# Altium footprint library FootPrintLib_6.PcbLib: 588 footprints (part 10 of 37)
Each footprint in its own frame and in the unit in brackets; x right, y up, seen from the top. Pads: shape width x height; smd on the part's side, far side on the other; paste and mask are expansions set on the pad; w line width, h text height; cw(c..) or ccw(c..) is an arc to the next point about the centre after c.
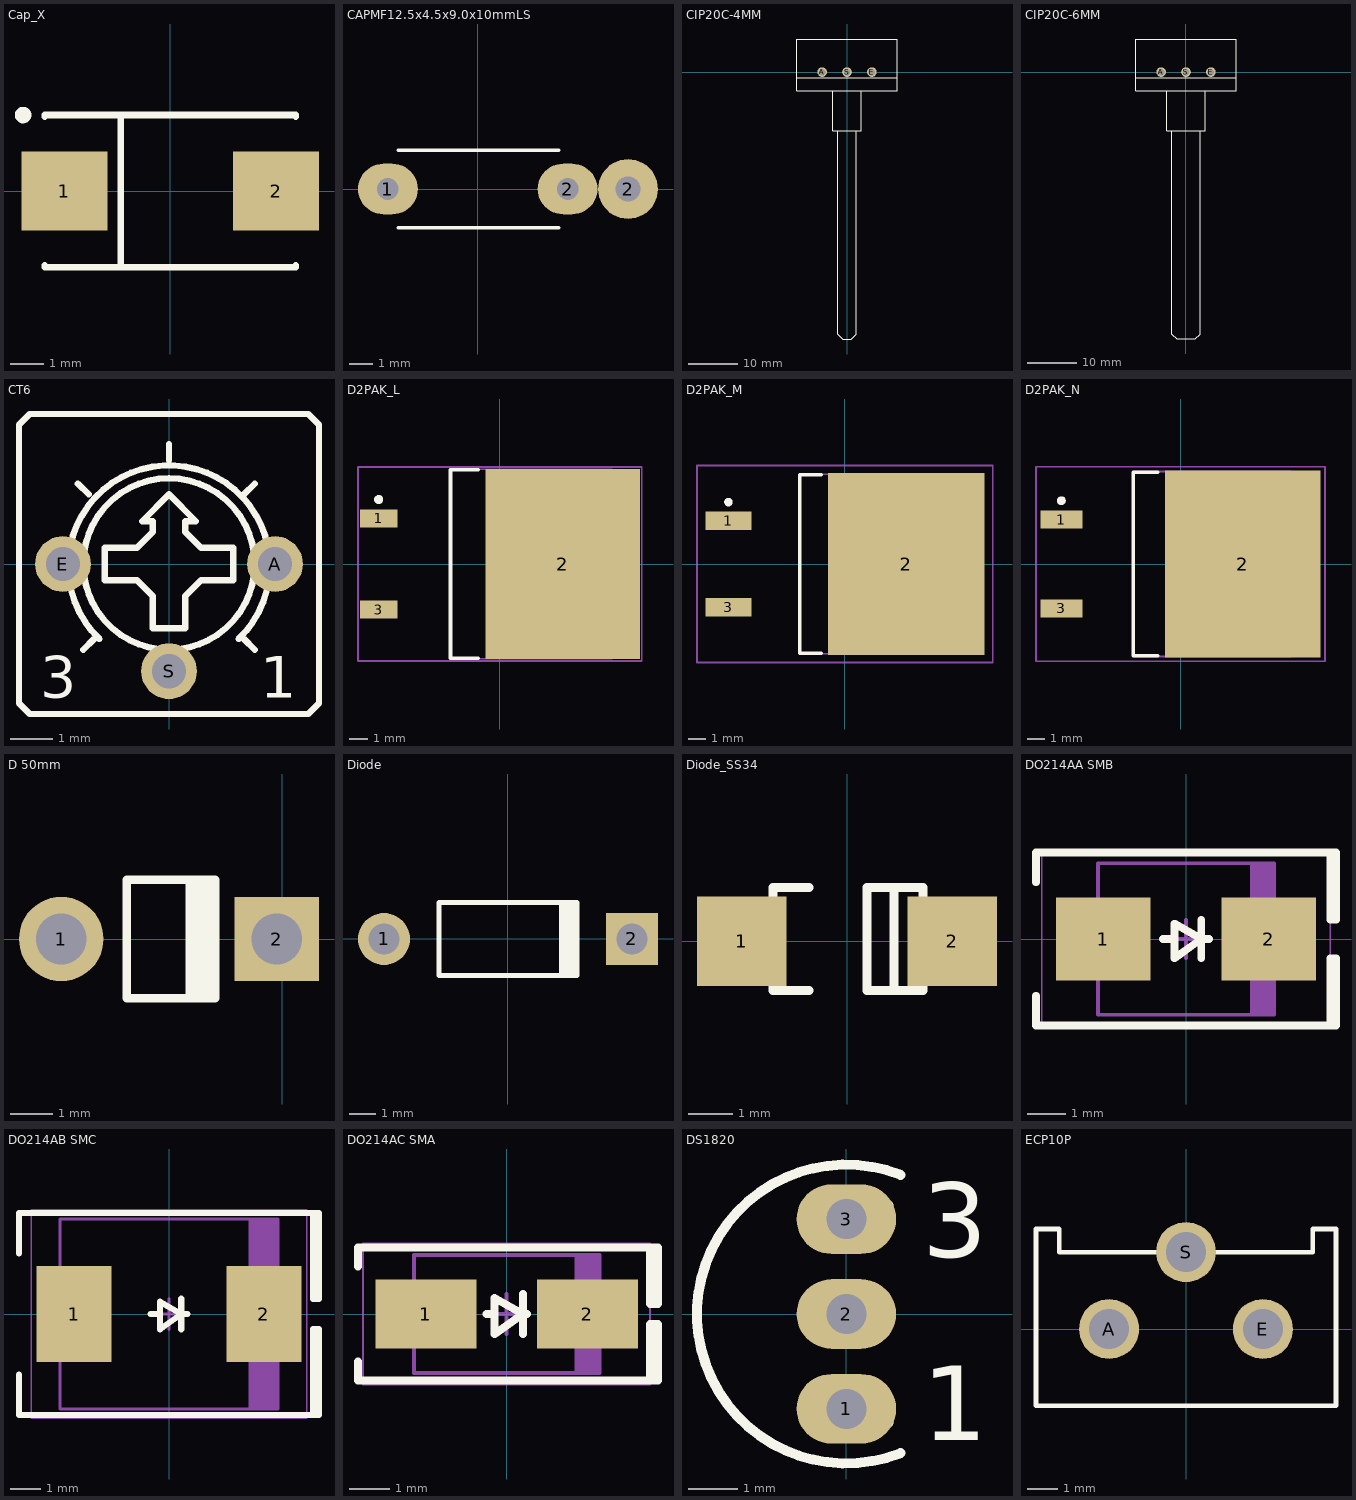
[diagram p9: the footprints below, top view; thin cyan lines are the x and y axes]

## Cap_X [mm] "Capacitor, SM Tantalum; Body 7.3 x 4.3 mm (LxW typ)"
height 4.3
pads (2):
  rect 2.6x2.4 smd: 1(-3.2,0) 2(3.2,0)
Top Overlay:
  circle w0.25: c-4.45,2.3 r0.125
  lines w0.2: -3.8,-2.25 -3.8,-2.3 3.8,-2.3 3.8,-2.25 ; -3.8,2.25 -3.8,2.3 3.8,2.3 3.8,2.25 ; -1.5,-2.3 -1.5,2.3
3D body "User Library-CaseX_7343-43.SLDPRT": height 4, standoff 0, extent -3.65,-2.15 3.65,2.15

## CAPMF12.5x4.5x9.0x10mmLS [mil] "Body: 12.5'mm, Pin: 10'mm, 7.5'mm"
height 354.33
pads (3):
  oval 100x85 hole 36: 1(-150,0) 2(150,0)
  round 100 hole 42: 2(251,0)
Top Overlay:
  lines w6: -132.72,-65 135,-65 ; -132.72,65 135,65
3D body "CAPMF_12.5x4.5x8mm LxTxH 10mmLS.STEP": height 354.33, standoff -100, extent -196.06,-88.58 296.07,88.59

## CIP20C-4MM [mm]
pads (3):
  round 1.95 hole 1.3: A(-5,0) E(5,0) S(0,0)
Top Overlay:
  lines w0.203: -2.9,-3.875 -2.9,-11.8 2.9,-11.8 2.9,-3.9 ; -1.9,-11.875 -1.9,-52.8 -0.9,-53.8 0.9,-53.8 1.9,-52.8 1.9,-11.9 ; -10.1,-1.125 10.1,-1.125 ; -10.1,-1.125 -10.1,-3.8 10.1,-3.8 10.1,-1.125 ; -10.1,-1.125 -10.1,6.675 10.1,6.675 10.1,-1.125

## CIP20C-6MM [mm]
pads (3):
  round 1.95 hole 1.3: A(-5,0) E(5,0) S(0,0)
Top Overlay:
  lines w0.203: -3.9,-3.875 -3.9,-11.8 3.9,-11.8 3.9,-3.9 ; -2.9,-11.875 -2.9,-52.8 -1.9,-53.8 1.9,-53.8 2.9,-52.8 2.9,-11.85 ; -10.1,-1.125 -10.1,6.675 10.1,6.675 10.1,-1.125 ; -10.1,-1.125 -10.1,-3.8 10.1,-3.8 10.1,-1.125 ; -10.1,-1.125 10.1,-1.125

## CT6 [mil]
pads (3):
  round 52 hole 32: A(99,0) E(-99,0) S(0,-100)
Top Overlay:
  circle w6: c0,0 r80
  lines w6: -114,0 -99,0 ; -85,75 -75,65 ; -80,-80 -70,-70 ; -65,-70 cw(c0,-2) 65,-70 ; 0,97 0,112 ; 70,-70 80,-80 ; 70,65 80,75 ; 99,0 114,0 ; -140,-130 -130,-140 130,-140 140,-130 140,130 130,140 -130,140 -140,130 -140,-130 ; -60,-15 -60,15 -30,15 -15,30 -15,40 -25,40 0,65 25,40 15,40 15,30 30,15 60,15 60,-15 30,-15 15,-30 15,-60 -15,-60 -15,-30 -30,-15 -60,-15
  text "3" at -120,-125 h39
  text "1" at 85,-125 h39

## D2PAK_L [mm] "D2-PAK, 4-Leads, Body 8.8x10.4mm, Pitch 2.54mm, Lead Span 15.1mm, IPC High Density"
height 4.69
pads (3):
  rect 2.1x1 smd: 1(-6.75,2.54) 3(-6.75,-2.54)
  rect 8.6x10.6 smd: 2(3.5,0)
Top Overlay:
  circle w0.25: c-6.75,3.59 r0.125
  lines w0.2: -1.2,-5.25 -2.75,-5.25 -2.75,5.25 -1.2,5.25
Mechanical 13:
  lines w0.1: -2.75,-5.275 6.25,-5.275 6.25,5.275 -2.75,5.275 -2.75,-5.275
Mechanical 15:
  lines w0.1: -0.5,0 0.5,0 ; 0,-0.5 0,0.5 ; -7.9,-5.4 7.9,-5.4 7.9,5.4 -7.9,5.4 -7.9,-5.4
3D body: height 4.69, standoff 0, extent -2.75,-5.275 6.25,5.275

## D2PAK_M [mm] "D2-PAK, 4-Leads, Body 8.8x10.4mm, Pitch 2.54mm, Lead Span 15.1mm, IPC Low Density"
height 4.69
pads (3):
  rect 2.7x1.1 smd: 1(-6.85,2.54) 3(-6.85,-2.54)
  rect 9.2x10.7 smd: 2(3.6,0)
Top Overlay:
  circle w0.25: c-6.85,3.64 r0.125
  lines w0.2: -1.4,-5.25 -2.65,-5.25 -2.65,5.25 -1.4,5.25
Mechanical 13:
  lines w0.1: -2.65,-5.275 6.35,-5.275 6.35,5.275 -2.65,5.275 -2.65,-5.275
Mechanical 15:
  lines w0.1: -0.5,0 0.5,0 ; 0,-0.5 0,0.5 ; -8.7,-5.8 8.7,-5.8 8.7,5.8 -8.7,5.8 -8.7,-5.8
3D body: height 4.69, standoff 0, extent -2.65,-5.275 6.35,5.275

## D2PAK_N [mm] "D2-PAK, 4-Leads, Body 8.8x10.4mm, Pitch 2.54mm, Lead Span 15.1mm, IPC Medium Density"
height 4.69
pads (3):
  rect 2.4x1.05 smd: 1(-6.8,2.54) 3(-6.8,-2.54)
  rect 8.9x10.65 smd: 2(3.55,0)
Top Overlay:
  circle w0.25: c-6.8,3.615 r0.125
  lines w0.2: -1.3,-5.25 -2.7,-5.25 -2.7,5.25 -1.3,5.25
Mechanical 13:
  lines w0.1: -2.7,-5.275 -2.7,5.275 6.3,5.275 6.3,-5.275 -2.7,-5.275
Mechanical 15:
  lines w0.1: -0.5,0 0.5,0 ; 0,-0.5 0,0.5 ; -8.25,-5.55 -8.25,5.55 8.25,5.55 8.25,-5.55 -8.25,-5.55
3D body: height 4.69, standoff 0, extent -2.7,-5.275 6.3,5.275

## D 50mm [mm] "50mm Pin Spacing"
pads (2):
  round 2 hole 1.2: 1(-5.23,0)
  rect 2x2 hole 1.2: 2(-0.127,0)
Top Overlay:
  rectangle: -2.286,-1.4 -1.486,1.4
  lines w0.2: -1.58,-1.4 -3.683,-1.4 -3.683,1.4 -1.58,1.4

## Diode [mm] "Diode, Axial; Body 5.2 x 2.7 mm (LxDia. max), Lead Dia. 0.86 mm (max)"
height 2.8
pads (2):
  round 2 hole 1.2: 1(-4.762,0)
  rect 2x2 hole 1.2: 2(4.763,0)
Top Overlay:
  rectangle: 1.95,-1.4 2.75,1.4
  lines w0.2: 2.65,-1.4 -2.65,-1.4 -2.65,1.4 2.65,1.4
3D body "User Library-DO-41_375mil.STEP": height 2.83, standoff -2.52, extent -5.192,-1.355 5.193,1.345

## Diode_SS34 [mm]
height 10.95
pads (2):
  rect 2x2 smd: 1(-2.35,0) 2(2.35,0)
Top Overlay:
  lines w0.2: -0.85,-1.1 -1.65,-1.1 -1.65,1.2 -0.85,1.2 ; 1.05,-1 1.05,1.1 ; 0.45,-1.1 1.7,-1.1 1.7,1.2 0.45,1.2 0.45,-1.1
3D body "SW3DPS-DIOD SMD 10BF10-DEFAULT.STEP": height 2.4, standoff -0.03, extent -2.574,-1.822 2.726,1.778

## DO214AA SMB [mm] "Molded Diode, 2-Leads, Body 4.31x3.62mm, IPC Medium Density"
height 2.44
pads (2):
  rect 2.45x2.15 smd: 1(-2.15,0) 2(2.15,0)
Top Overlay:
  lines w0.2: -3.9,-1.475 -3.9,-2.25 3.9,-2.25 3.9,-0.5 3.75,-0.5 3.75,-2.25 ; -3.9,1.475 -3.9,2.25 3.9,2.25 3.9,0.5 3.75,0.5 3.75,2.25 ; -0.6,0 -0.3,0 ; 0.4,-0.5 0.4,0.5 ; 0.6,0 0.4,0 ; 0.4,0 -0.3,0.4 -0.3,-0.5 0.4,0
Mechanical 13:
  rectangle: 1.67,-1.97 2.285,1.97
  lines w0.1: -2.285,-1.97 2.285,-1.97 2.285,1.97 -2.285,1.97 -2.285,-1.97
Mechanical 15:
  lines w0.05: -3.75,-2.25 3.75,-2.25 3.75,2.25 -3.75,2.25 -3.75,-2.25
  lines w0.1: -0.5,0 0.5,0 ; 0,-0.5 0,0.5
3D body "SMB.STEP": height 2.4, standoff 0, extent -2.6,-1.799 2.6,1.8

## DO214AB SMC [mm] "Molded Diode, 2-Leads, Body 6.85x5.90mm, IPC Medium Density"
height 2.62
pads (2):
  rect 2.45x3.15 smd: 1(-3.1,0) 2(3.1,0)
Top Overlay:
  lines w0.2: -4.9,-1.975 -4.9,-3.3 4.9,-3.3 4.9,-0.5 4.7,-0.5 4.7,-3.3 ; -4.9,1.975 -4.9,3.3 4.9,3.3 4.9,0.5 4.7,0.5 4.7,3.3 ; -0.6,0 -0.3,0 ; 0.4,-0.5 0.4,0.5 ; 0.6,0 0.4,0 ; 0.4,0 -0.3,0.4 -0.3,-0.5 0.4,0
Mechanical 13:
  rectangle: 2.599,-3.11 3.555,3.11
  lines w0.1: -3.555,-3.11 -3.555,3.11 3.555,3.11 3.555,-3.11 -3.555,-3.11
Mechanical 15:
  lines w0.05: -4.5,-3.4 -4.5,3.4 4.5,3.4 4.5,-3.4 -4.5,-3.4
  lines w0.1: -0.5,0 0.5,0 ; 0,-0.5 0,0.5
3D body "SMC.STEP": height 2.6, standoff 0, extent -3.97,-2.952 3.97,2.952

## DO214AC SMA [mm] "Molded Diode, 2-Leads, Body 4.30x2.60mm, IPC Medium Density"
height 2.4
pads (2):
  rect 2.5x1.7 smd: 1(-2,0) 2(2,0)
Top Overlay:
  lines w0.2: -3.683,-1.175 -3.683,-1.651 3.75,-1.651 3.75,-0.254 3.556,-0.254 3.556,-1.651 ; -3.683,1.175 -3.683,1.651 3.75,1.651 3.75,0.254 3.556,0.254 3.556,1.651 ; -0.5,0 -0.3,0 ; 0.4,-0.5 0.4,0.5 ; 0.5,0 0.4,0 ; 0.4,0 -0.3,0.4 -0.3,-0.5 0.4,0
Mechanical 13:
  rectangle: 1.681,-1.46 2.3,1.46
  lines w0.1: -2.3,-1.46 -2.3,1.46 2.3,1.46 2.3,-1.46 -2.3,-1.46
Mechanical 15:
  lines w0.05: -3.556,-1.75 -3.556,1.75 3.556,1.75 3.556,-1.75 -3.556,-1.75
  lines w0.1: -0.5,0 0.5,0 ; 0,-0.5 0,0.5
3D body "SMA.STEP": height 2.4, standoff 0, extent -2.6,-1.375 2.6,1.375

## DS1820 [mm]
pads (3):
  oval 2x1.4 hole 0.8: 1(0,-1.905) 2(0,0) 3(0,1.905)
Top Overlay:
  lines w0.2: 0.85,-2.18 0.85,-2.03 ; 0.85,2.02 0.85,2.18 ; 1.09,-2.795 cw(c0,0) 1.09,2.795
  text "1" at 1.524,-2.54 h1.5
  text "3" at 1.524,1.143 h1.5
Mechanical 15:
  lines w0.1: -0.5,0 0.5,0 ; 0,-0.5 0,0.5

## ECP10P [mil]
pads (3):
  round 78 hole 52: A(-100,0) E(100,0) S(0,100)
Top Overlay:
  rectangle: -20,100 20,110
  lines w6: -195,-100 -195,130 -165,130 -165,100 -60,100 60,100 165,100 165,130 195,130 195,-100 -195,-100